# Altium schematic symbol library CL31B226KPHNNNE.SchLib: 1 symbol
Pins are listed as number, name and electrical type; pins without a type are passive.

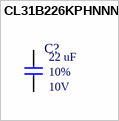
[diagram p0: symbol CL31B226KPHNNNE]

## CL31B226KPHNNNE
designator C?  Rated Voltage: 10V  Tolerance: 10%  Capacitence: 22 uF  (hidden comment: CL31B226KPHNNNE)
CAP CER 22UF 10V X7R 1206; MFR: Samsung Electro-Mechanics; PN: CL31B226KPHNNNE; ComponentLink1Description: Datasheet; ComponentLink1URL: http://www.samsungsem.com/kr/support/product-search/mlcc/CL31B226KPHNNNE.jsp; Temperature Coefficient: X7R; Package: 1206; Footprint: C1206; Supplier 1: Digi-Key; Supplier Part Number 1: 1276-2769-1-ND
footprint C1206 (A generic C1206 footprint)
pins: 1, 2